# Altium footprint library Logic gate 5.PcbLib: 1 footprints
Each footprint in its own frame and in the unit in brackets; x right, y up, seen from the top. Pads: shape width x height; smd on the part's side, far side on the other; paste and mask are expansions set on the pad; w line width, h text height; cw(c..) or ccw(c..) is an arc to the next point about the centre after c.
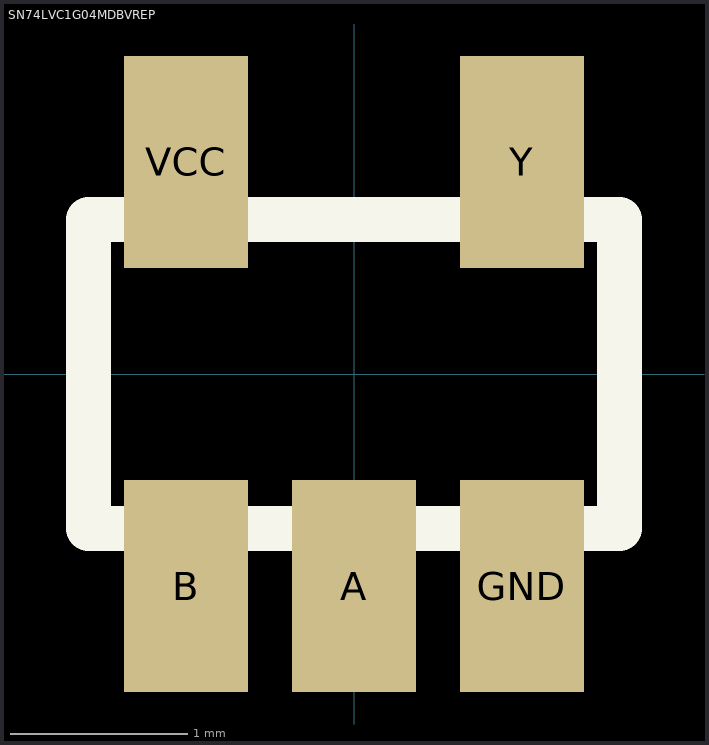
[diagram p0: the footprint, top view; thin cyan lines are the x and y axes]

## SN74LVC1G04MDBVREP [mm]
pads (5):
  rect 0.7x1.2 smd: A(0,-1.2) B(-0.95,-1.2) GND(0.95,-1.2) VCC(-0.95,1.2) Y(0.95,1.2)
Top Overlay:
  lines w0.254: -1.502,-0.875 1.502,-0.875 1.502,0.875 -1.502,0.875 -1.502,-0.875